# Altium integrated library AD9959BCPZ.IntLib: 1 symbol
Pins are listed as number, name and electrical type; pins without a type are passive.

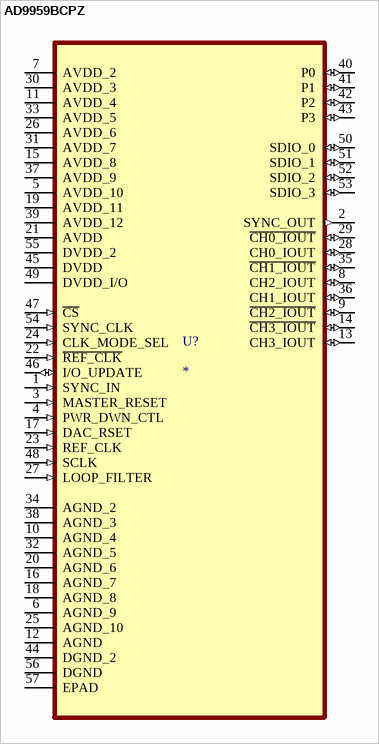
[diagram p0: symbol AD9959BCPZ]

## AD9959BCPZ
designator U?
Direct Digital Synthesis IC 10 b 500MHz 32 b Tuning 56-LFCSP-VQ (8x8); MF: Analog Devices; MP: AD9959BCPZ-REEL7; Check_prices: https://www.snapeda.com/parts/AD9959BCPZ-REEL7/Analog%20Devices%20Inc./view-part/591505/?ref=eda; Price: None; Purchase-URL: https://pricing.snapeda.com/search/part/AD9959BCPZ-REEL7/?ref=eda; Availability: Good; SnapEDA_Link: https://www.snapeda.com/parts/AD9959BCPZ-REEL7/Analog%20Devices%20Inc./view-part/591505/?ref=snap; Package: LFCSP -56 Analog Devices; Value: *
footprint QFN50P800X800X100-57N
pins: 1 SYNC_IN (in), 2 SYNC_OUT (out), 3 MASTER_RESET (in), 4 PWR_DWN_CTL (in), 5 AVDD_10 (power), 6 AGND_9, 7 AVDD_2 (power), 8 CH2_IOUT (io), 9 ~{CH2_IOUT} (io), 10 AGND_4, 11 AVDD_4 (power), 12 AGND, 13 CH3_IOUT (io), 14 ~{CH3_IOUT} (io), 15 AVDD_8 (power), 16 AGND_7, 17 DAC_RSET (in), 18 AGND_8, 19 AVDD_11 (power), 20 AGND_6, 21 AVDD (power), 22 ~{REF_CLK} (in), 23 REF_CLK (in), 24 CLK_MODE_SEL (in), 25 AGND_10, 26 AVDD_6 (power), 27 LOOP_FILTER (in), 28 CH0_IOUT (io), 29 ~{CH0_IOUT} (io), 30 AVDD_3 (power), 31 AVDD_7 (power), 32 AGND_5, 33 AVDD_5 (power), 34 AGND_2, 35 ~{CH1_IOUT} (io), 36 CH1_IOUT (io), 37 AVDD_9 (power), 38 AGND_3, 39 AVDD_12 (power), 40 P0 (io), 41 P1 (io), 42 P2 (io), 43 P3 (io), 44 DGND_2, 45 DVDD (power), 46 I/O_UPDATE (io), 47 ~{CS} (in), 48 SCLK (in), 49 DVDD_I/O (power), 50 SDIO_0 (io), 51 SDIO_1 (io), 52 SDIO_2 (io), 53 SDIO_3 (io), 54 SYNC_CLK (in), 55 DVDD_2 (power), 56 DGND, 57 EPAD